# EAGLE library part MAX3440E (library SolarJackets)
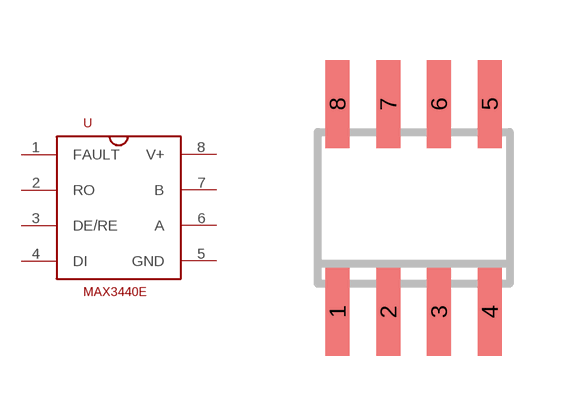
[diagram p9: symbol with the pads of SO-08; footprint SO-08]

Designator prefix -

## MAX3440E  [SO-08]
1  FAULT
2  RO
3  DE/RE
4  DI
5  GND
6  A
7  B
8  V+

## Footprint SO-08 (pad centres in mm)
Small Outline Narrow Plastic Gull Wing 150-mil body, package type SN
smd 0.6 x 2.2: 1 -1.905,-2.6; 2 -0.635,-2.6; 3 0.635,-2.6; 4 1.905,-2.6; 5 1.905,2.6; 6 0.635,2.6; 7 -0.635,2.6; 8 -1.905,2.6